# Altium footprint library PcbLib1.PcbLib: 41 footprints (part 1 of 3)
Each footprint in its own frame and in the unit in brackets; x right, y up, seen from the top. Pads: shape width x height; smd on the part's side, far side on the other; paste and mask are expansions set on the pad; w line width, h text height; cw(c..) or ccw(c..) is an arc to the next point about the centre after c.
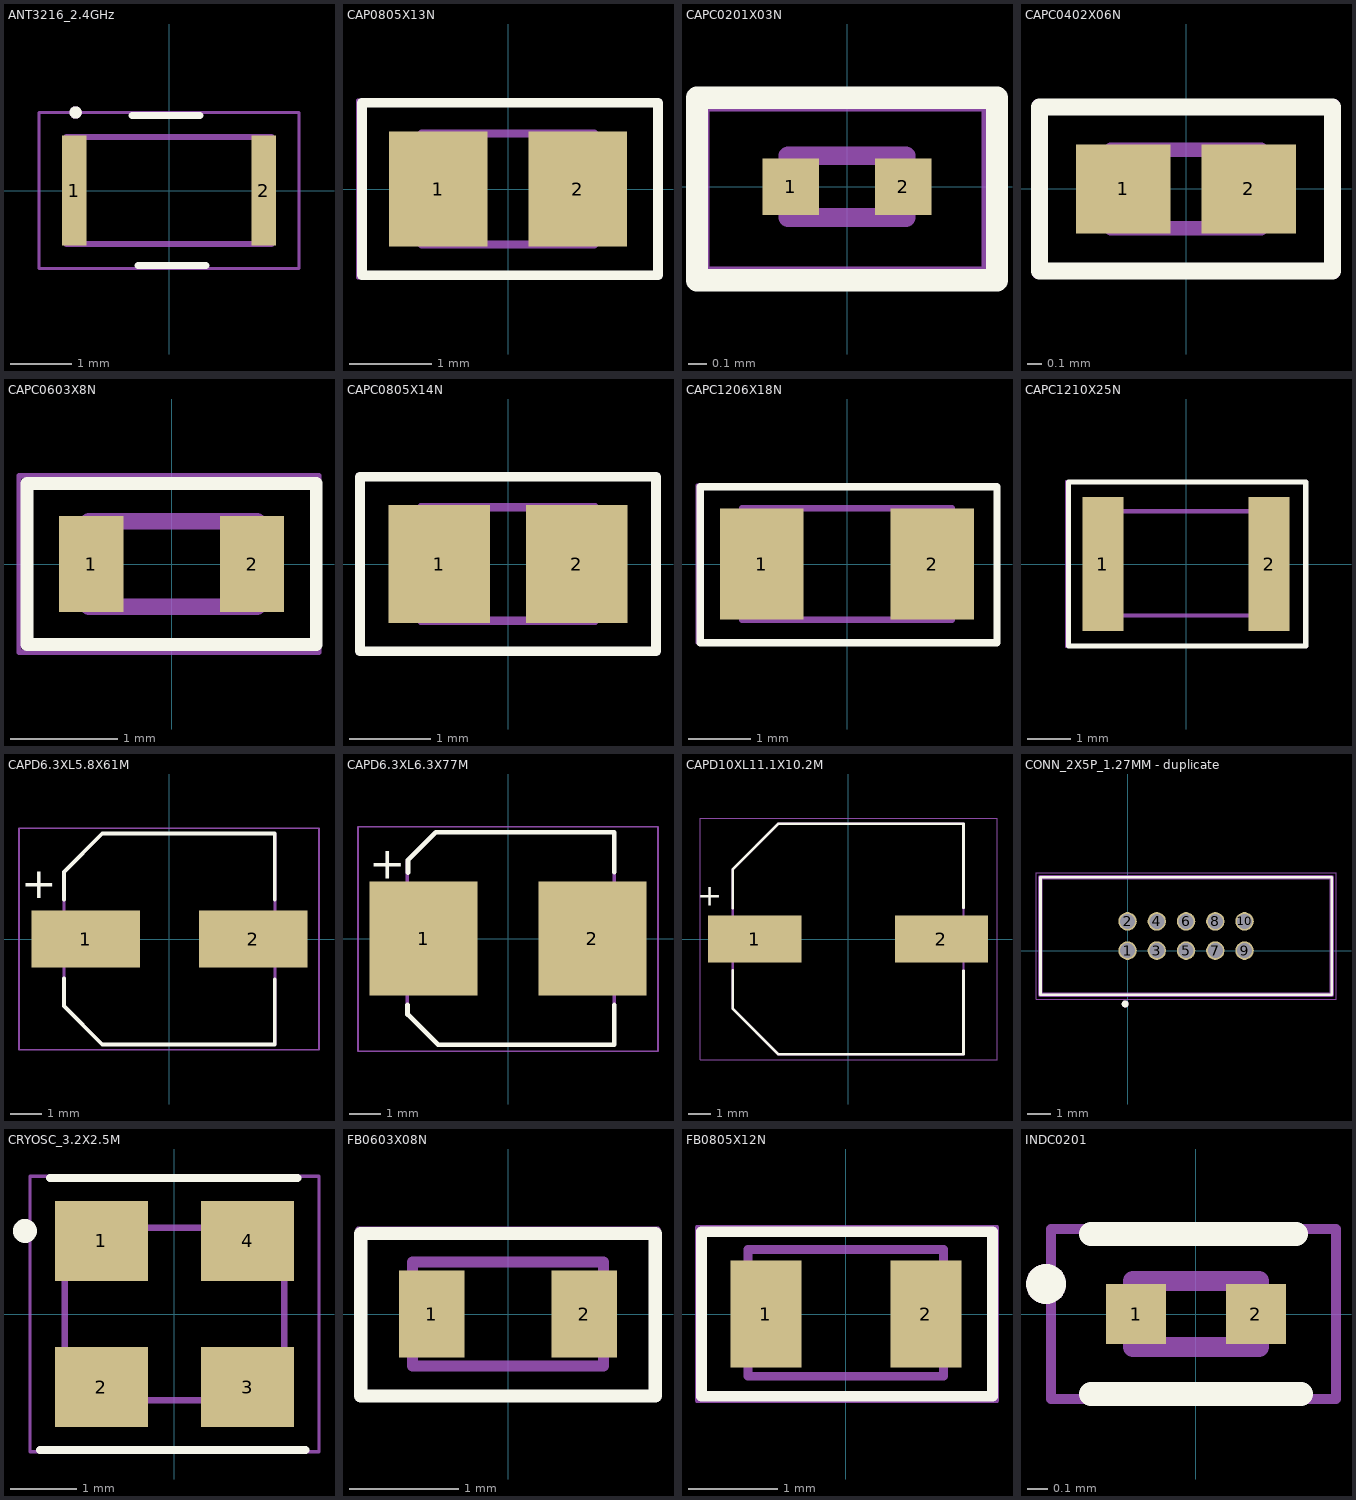
[diagram p0: the footprints below, top view; thin cyan lines are the x and y axes]

## ANT3216_2.4GHz [mm] "Chip Antenna, 2-Leads, Body 3.20x1.60mm, IPC Medium Density"
height 1.2
pads (2):
  rect 0.4x1.8 smd: 1(-1.55,0) 2(1.55,0)
Top Overlay:
  circle w0.1: c-1.525,1.275 r0.05
  lines w0.12: -0.6,1.225 0.5,1.225 ; -0.5,-1.225 0.6,-1.225
Mechanical 7 (Mech7):
  circle w0.1: c-1.525,1.275 r0.05
  lines w0.1: -1.675,-0.875 1.675,-0.875 1.675,0.875 -1.675,0.875 -1.675,-0.875
  text ".Designator" at -1.148,-0.114 h1
  text "ANT_3.2mm x 1.6mm (1206 imperial)" at -10.348,-2.439 h1
Mechanical 15:
  lines w0.05: -2.125,-1.275 2.125,-1.275 2.125,1.275 -2.125,1.275 -2.125,-1.275
3D body "Antenne 3216.STEP": height 1.3, standoff 0, extent -1.6,-0.8 1.6,0.8

## CAP0805X13N [mm] "Chip Capacitor, 2-Leads, Body 2.00x1.25mm, IPC Medium Density"
height 1.35
pads (2):
  rect 1.2x1.4 smd: 1(-0.85,0) 2(0.85,0)
Top Overlay:
  lines w0.12: -1.775,-1.05 -1.775,1.05 1.825,1.05 1.825,-1.05 -1.775,-1.05
Mechanical 7 (Mech7):
  lines w0.1: -1.05,-0.675 1.05,-0.675 1.05,0.675 -1.05,0.675 -1.05,-0.675
  text "2.0 mm X 1.25 mm (0805 imperial)" at -5.373,-2.264 h1
  text ".Designator" at -0.673,0.011 h1
Mechanical 15:
  lines w0.05: -1.825,-1.075 -1.825,1.075 1.825,1.075 1.825,-1.075 -1.825,-1.075
3D body: height 1.35, standoff 0, extent 0.6,-0.675 1.05,0.675
3D body: height 1.35, standoff 0, extent -1.05,-0.675 -0.6,0.675
3D body: height 1.35, standoff 0, extent -0.6,-0.675 0.6,0.675

## CAPC0201X03N [mm] "Chip Capacitor, 2-Leads, Body 0.60x0.30mm, IPC Medium Density"
height 0.3
pads (2):
  rect 0.3x0.3 smd: 1(-0.3,0) 2(0.3,0)
Top Overlay:
  lines w0.12: -0.8,-0.5 -0.8,0.475 0.8,0.475 0.8,-0.5 -0.8,-0.5
Mechanical 7 (Mech7):
  lines w0.1: -0.315,-0.165 0.315,-0.165 0.315,0.165 -0.315,0.165 -0.315,-0.165
  text "0.6 mm X 0.3 mm (0201 imperial)" at -6.873,-1.664 h1
  text ".Designator" at -0.473,0.186 h1
Mechanical 15:
  lines w0.05: -0.757,-0.45 0.743,-0.45 0.743,0.425 -0.757,0.425 -0.757,-0.45
3D body: height 0.3, standoff 0, extent 0.165,-0.165 0.315,0.165
3D body: height 0.3, standoff 0, extent -0.315,-0.165 -0.165,0.165
3D body: height 0.3, standoff 0, extent -0.165,-0.165 0.165,0.165

## CAPC0402X06N [mm] "Chip Capacitor, 2-Leads, Body 1.00x0.50mm, IPC Medium Density"
height 0.55
pads (2):
  rect 0.66x0.62 smd: 1(-0.44,0) 2(0.44,0)
Top Overlay:
  lines w0.12: -1.025,-0.575 -1.025,0.575 -1,0.575 1.025,0.575 1.025,-0.575 -1.025,-0.575
Mechanical 7 (Mech7):
  lines w0.1: -0.525,-0.275 -0.525,0.275 0.525,0.275 0.525,-0.275 -0.525,-0.275
  text ".Designator" at -0.175,0.433 h1
  text "1.0 mm x 0.5 mm (0402 imperial)" at -7.075,-1.892 h1
Mechanical 15:
  lines w0.05: -1.05,-0.6 -1.05,0.6 1.05,0.6 1.05,-0.6 -1.05,-0.6
3D body: height 0.55, standoff 0, extent -0.275,-0.275 0.275,0.275
3D body: height 0.55, standoff 0, extent -0.525,-0.275 -0.275,0.275
3D body: height 0.55, standoff 0, extent 0.275,-0.275 0.525,0.275

## CAPC0603X8N [mm]
pads (2):
  rect 0.6x0.9 smd: 1(-0.75,0) 2(0.75,0)
Top Overlay:
  lines w0.12: -1.35,-0.75 -1.35,0.75 -1.15,0.75 1.35,0.75 1.35,-0.75 -1.35,-0.75
Mechanical 7:
  lines w0.152: -0.775,0.4 0.8,0.4 0.8,-0.4 ; -0.775,0.4 -0.775,-0.4 0.8,-0.4 ; -0.775,0.4 -0.775,0.4 ; 0.8,-0.4 0.8,-0.4
Mechanical 7 (Mech7):
  lines w0.1: -0.787,-0.4 -0.787,0.4 0.787,0.4 0.787,-0.4 -0.787,-0.4
  text ".Designator" at -0.423,0.336 h1
  text "1.6 mm x 0.8 mm (0603 imperial)" at -6.698,-1.839 h1
Mechanical 15:
  lines w0.05: -1.425,-0.825 1.375,-0.825 1.375,0.825 -1.425,0.825 -1.425,-0.825
3D body "CC0603JRNPO9BN222 - 2.2nF, C0G,.step": height 0.91, standoff 0.01, extent -0.85,-0.45 0.85,0.45

## CAPC0805X14N [mm] "Chip Capacitor, 2-Leads, Body 2.00x1.25mm, IPC Medium Density"
height 1.4
pads (2):
  rect 1.25x1.45 smd: 1(-0.85,0) 2(0.85,0)
Top Overlay:
  lines w0.12: -1.825,-1.075 -1.825,1.075 1.825,1.075 1.825,-1.075 -1.825,-1.075
Mechanical 7 (Mech7):
  lines w0.1: -1.075,-0.7 -1.075,0.7 1.075,0.7 1.075,-0.7 -1.075,-0.7
  text "2.0 mm X 1.25 mm (0805 imperial)" at -6.523,-2.164 h1
  text ".Designator" at -0.673,0.036 h1
Mechanical 15:
  lines w0.05: -1.85,-1.1 -1.85,1.1 1.85,1.1 1.85,-1.1 -1.85,-1.1
3D body: height 1.4, standoff 0, extent -0.625,-0.7 0.625,0.7
3D body: height 1.4, standoff 0, extent -1.075,-0.7 -0.625,0.7
3D body: height 1.4, standoff 0, extent 0.625,-0.7 1.075,0.7

## CAPC1206X18N [mm] "Chip Capacitor, 2-Leads, Body 3.20x1.60mm, IPC Medium Density"
height 1.8
pads (2):
  rect 1.35x1.8 smd: 1(-1.375,0) 2(1.375,0)
Top Overlay:
  lines w0.12: -2.375,-1.275 -2.375,1.25 2.425,1.25 2.425,-1.275 -2.375,-1.275
Mechanical 7 (Mech7):
  lines w0.1: -1.7,-0.9 1.7,-0.9 1.7,0.9 -1.7,0.9 -1.7,-0.9
  text "3.2 mm x 1.6 mm (1206 imperial)" at -7.298,-2.389 h1
  text ".Designator" at -1.323,-0.064 h1
Mechanical 15:
  lines w0.05: -2.425,-1.275 2.425,-1.275 2.425,1.275 -2.425,1.275 -2.425,-1.275
3D body: height 1.8, standoff 0, extent 1.15,-0.9 1.7,0.9
3D body: height 1.8, standoff 0, extent -1.7,-0.9 -1.15,0.9
3D body: height 1.8, standoff 0, extent -1.15,-0.9 1.15,0.9

## CAPC1210X25N [mm] "Chip Capacitor, 2-Leads, Body 3.20x2.50mm, IPC Medium Density"
height 2.5
pads (2):
  rect 0.95x3.1 smd: 1(-1.925,0) 2(1.925,0)
Top Overlay:
  lines w0.12: -2.725,-1.9 2.775,-1.9 2.775,1.9 -2.725,1.9 -2.725,-1.9
Mechanical 7 (Mech7):
  lines w0.1: -1.6,-1.194 -1.6,1.219 1.549,1.219 1.549,-1.194 -1.6,-1.194
  text "3.2 mm x 2.5 mm (1210 imperial)" at -7.348,-2.664 h1
  text ".Designator" at -1.123,-0.264 h1
Mechanical 15:
  lines w0.05: -2.775,-1.925 -2.775,1.925 2.8,1.925 2.8,-1.925 -2.775,-1.925
3D body "CC1210 - 22uF, X7R.step": height 2.51, standoff 0.01, extent -1.64,-1.25 1.64,1.25

## CAPD6.3XL5.8X61M [mm] "Polymer Aluminum Electrolytic Capacitor, Body 6.70x6.70x6.10mm, IPC Low Density"
height 6.1
pads (2):
  rect 3.5x1.85 smd: 1(-2.7,0) 2(2.7,0)
Top Overlay:
  lines w0.12: -3.4,-1.275 -3.4,-2.163 -2.163,-3.4 3.4,-3.4 3.4,-1.3 ; -3.4,1.275 -3.4,2.163 -2.163,3.4 3.4,3.4 3.4,1.275
  text "+" at -4.773,1.311 h1
Mechanical 7 (Mech7):
  lines w0.1: -3.4,-2.163 -2.163,-3.4 3.4,-3.4 3.4,3.4 -2.163,3.4 -3.4,2.163 -3.4,-2.163
  text "+" at -4.773,1.283 h1.02
  text ".Designator" at -2.648,-0.139 h1
  text "CAP D6.3 mm x L5.8 mm" at -9.773,-5.048 h1
Mechanical 15:
  lines w0.05: -4.85,-3.575 4.825,-3.575 4.825,3.575 -4.85,3.575 -4.85,-3.575
3D body "C5246550 - 10uF,D6.3xL5.8mm.step": height 6, standoff 0, extent -3.65,-3.3 3.65,3.3

## CAPD6.3XL6.3X77M [mm] "Aluminum Electrolytic Capacitor, Body 6.60x6.60x7.70mm, IPC Low Density"
height 7.7
pads (2):
  rect 3.45x3.65 smd: 1(-2.7,0) 2(2.7,0)
Top Overlay:
  lines w0.152: -3.213,-2.121 -3.213,-2.426 -2.239,-3.4 3.4,-3.4 3.4,-2.125 ; -3.2,2.108 -3.2,2.515 -2.315,3.4 -1.956,3.4 3.4,3.4 3.4,2.125
  text "+" at -4.445,1.914 h1.02
Mechanical 7 (Mech7):
  lines w0.1: -3.226,-2.413 -3.226,2.489 -2.315,3.4 3.4,3.4 3.4,-3.4 -2.239,-3.4 -3.226,-2.413
  text "CAP D6.3 mm x L6.3 mm" at -9.373,-5.723 h1
  text ".Designator" at -2.298,-0.939 h1
Mechanical 15:
  lines w0.05: -4.8,-3.6 4.8,-3.6 4.8,3.575 -4.8,3.575 -4.8,-3.6
3D body "C5246554 - 100uF, D6.3x7.7mm.step": height 7.71, standoff 0.01, extent -3.65,-3.3 3.65,3.3

## CAPD10XL11.1X10.2M [mm]
height 0.3
pads (2):
  rect 4.25x2.15 smd: 1(-4.25,0) 2(4.25,0)
Top Overlay:
  lines w0.12: -5.25,-1.425 -5.25,-3.163 -3.162,-5.25 5.25,-5.25 5.25,-1.45 ; -5.25,1.4 -5.25,3.162 -3.162,5.25 5.25,5.25 5.25,1.425
  text "+" at -6.873,1.511 h1
Mechanical 7 (Mech7):
  lines w0.1: -5.25,-3.163 -5.25,3.162 -3.162,5.25 5.25,5.25 5.25,-5.25 -3.162,-5.25 -5.25,-3.163
  text ".Designator" at -4.048,2.086 h1
  text "CAP D10 mm x L11.1 mm" at -10.148,-7.798 h1
Mechanical 15:
  lines w0.05: -6.725,-5.5 6.775,-5.5 6.775,5.5 -6.725,5.5 -6.725,-5.5
3D body "C3350 - 470uF, D10xL10.2mm.step": height 10.41, standoff 0, extent -5.5,-5.2 5.5,5.2

## CONN_2X5P_1.27MM - duplicate [mm]
pads (10):
  round 0.8 hole 0.65: 1(0,0) 2(0,1.27) 3(1.27,0) 4(1.27,1.27) 5(2.54,0) 6(2.54,1.27) 7(3.81,0) 8(3.81,1.27) 9(5.08,0) 10(5.08,1.27)
Top Overlay:
  lines w0.12: -3.785,-1.915 -3.785,3.185 8.865,3.185 8.865,-1.915 -3.785,-1.915
  lines w0.2: -0.156,-2.315 ccw(c-0.106,-2.315) -0.056,-2.315 ccw(c-0.106,-2.315) -0.156,-2.315
Mechanical 7 (Mech7):
  lines w0.1: -3.785,-1.905 8.865,-1.905 8.865,3.2 -3.785,3.2 -3.785,-1.905
  lines w0.2: -0.152,-2.311 ccw(c-0.102,-2.311) -0.052,-2.311 ccw(c-0.102,-2.311) -0.152,-2.311
  text "CONN 2 X 5 P 1.27 MM" at -5.448,-4.323 h1
  text ".Designator" at -2.623,1.161 h1
Mechanical 13:
  lines w0.2: -3.785,-1.915 -3.785,3.185 8.865,3.185 8.865,-1.915 -3.785,-1.915
Mechanical 15:
  lines w0.05: -3.975,-2.1 -3.975,3.375 9.05,3.375 9.05,-2.1 -3.975,-2.1
3D body "3220-10-0100-00.stp": height 5.63, standoff -1.92, extent -3.866,-1.99 8.946,3.254

## CRYOSC_3.2X2.5M [mm] "DFN, 4-Leads, Body 2.50x3.20mm, Pitch 1.70mm, IPC Medium Density"
height 0.8
pads (4):
  rect 1.4x1.2 smd: 1(-1.1,1.1) 2(-1.1,-1.1) 3(1.1,-1.1) 4(1.1,1.1)
Top Overlay:
  circle w0.18: c-2.25,1.25 r0.09
  lines w0.12: -2.025,-2.05 1.975,-2.05 ; -1.875,2.05 1.85,2.05
Mechanical 7 (Mech7):
  lines w0.1: -1.65,-1.3 -1.65,1.3 1.65,1.3 1.65,-1.3 -1.65,-1.3
  text ".Designator" at -1.123,-0.339 h1
  text "CRY_OSC 3.2 mm X 3.2 mm" at -10.023,-3.431 h1
Mechanical 15:
  lines w0.05: -2.175,-2.075 -2.175,2.075 2.175,2.075 2.175,-2.075 -2.175,-2.075
3D body "Crystal_L3.2xD2.5.STEP": height 0.83, standoff 0.01, extent -1.6,-1.25 1.6,1.25

## FB0603X08N [mm] "Chip Inductor, 2-Leads, Body 1.60x0.80mm, IPC Medium Density"
height 0.8
pads (2):
  rect 0.6x0.8 smd: 1(-0.7,0) 2(0.7,0)
Top Overlay:
  lines w0.12: -1.35,-0.75 1.35,-0.75 1.35,0.737 -1.35,0.737 -1.35,-0.75
Mechanical 7 (Mech7):
  lines w0.1: -0.875,-0.475 -0.875,0.475 0.875,0.475 0.875,-0.475 -0.875,-0.475
  text "FB 1.6 mm x 0.8 mm (0603 imperial)" at -5.148,-2.214 h1
  text ".Designator" at -0.498,0.211 h1
Mechanical 15:
  lines w0.05: -1.375,-0.775 -1.375,0.775 1.375,0.775 1.375,-0.775 -1.375,-0.775
3D body: height 0.8, standoff 0, extent -0.575,-0.475 0.575,0.475
3D body: height 0.8, standoff 0, extent -0.875,-0.475 -0.575,0.475
3D body: height 0.8, standoff 0, extent 0.575,-0.475 0.875,0.475

## FB0805X12N [mm] "Chip Inductor, 2-Leads, Body 2.00x1.25mm, IPC Medium Density"
height 1.25
pads (2):
  rect 0.8x1.2 smd: 1(-0.9,0) 2(0.9,0)
Top Overlay:
  lines w0.12: -1.625,-0.925 1.65,-0.925 1.65,0.925 -1.625,0.925 -1.625,-0.925
Mechanical 7 (Mech7):
  lines w0.1: -1.1,-0.7 -1.1,0.725 1.1,0.725 1.1,-0.7 -1.1,-0.7
  text ".Designator" at -0.673,0.011 h1
  text "FB 2.0 mm x 1.25 mm (0805 imperial)" at -7.348,-1.989 h1
Mechanical 15:
  lines w0.05: -1.675,-0.975 -1.675,0.975 1.7,0.975 1.7,-0.975 -1.675,-0.975
3D body: height 1.25, standoff 0, extent -0.6,-0.725 0.6,0.725
3D body: height 1.25, standoff 0, extent -1.1,-0.725 -0.6,0.725
3D body: height 1.25, standoff 0, extent 0.6,-0.725 1.1,0.725

## INDC0201 [mm] "Chip Inductor, 2-Leads, Body 0.60x0.30mm, IPC Medium Density"
height 0.3
pads (2):
  rect 0.3x0.3 smd: 1(-0.3,0) 2(0.3,0)
Top Overlay:
  circle w0.1: c-0.75,0.15 r0.05
  lines w0.12: -0.525,-0.4 0.525,-0.4 ; -0.525,0.4 0.5,0.4
Mechanical 7 (Mech7):
  circle w0.1: c-0.75,0.15 r0.05
  lines w0.1: -0.315,-0.165 0.315,-0.165 0.315,0.165 -0.315,0.165 -0.315,-0.165
  text "IN 0.6 mm x 0.3 mm (0201 imperial)" at -7.398,-1.339 h1
  text ".Designator" at -0.163,0.486 h1
Mechanical 15:
  lines w0.05: -0.725,-0.425 0.7,-0.425 0.7,0.425 -0.725,0.425 -0.725,-0.425
3D body: height 0.3, standoff 0, extent 0.165,-0.165 0.315,0.165
3D body: height 0.3, standoff 0, extent -0.315,-0.165 -0.165,0.165
3D body: height 0.3, standoff 0, extent -0.165,-0.165 0.165,0.165